# Altium integrated library Linear Technology PMIC-Switching Reg LT1074-LT8705.IntLib: 2252 symbols (part 6 of 124)
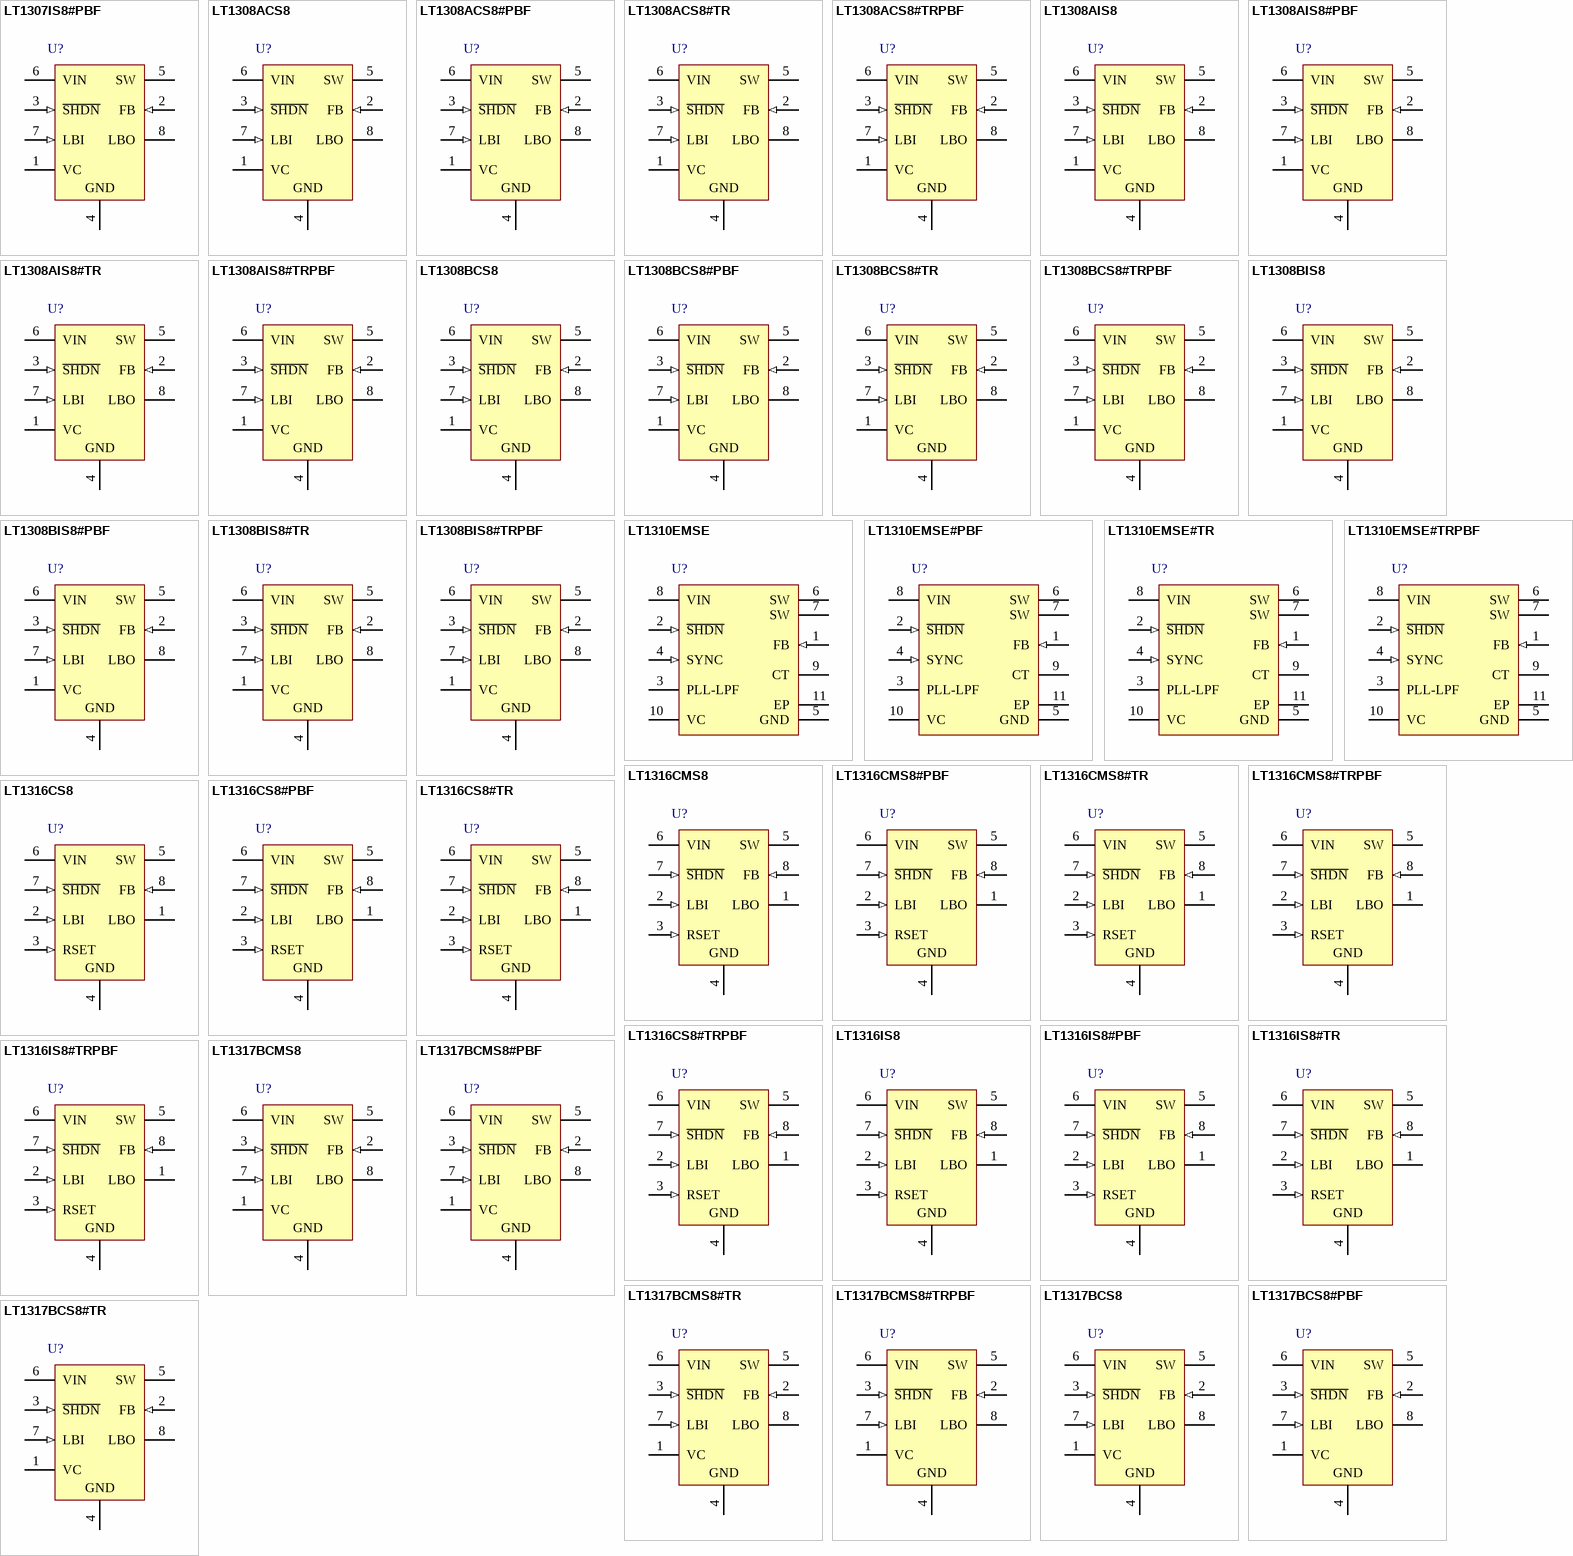
[diagram p76: symbols LT1307IS8#PBF to LT1317BCS8#TR]

## LT1316IS8#TRPBF
designator U?
Micropower DC/DC Converter with Programmable Peak Current Limit, 8-pin SOIC (S8-8), -40 to 85 degC, Pb-Free, Tape and Reel; Manufacturer: Linear Technology; PartNumber: LT1316IS8#TRPBF; Number of Outputs: 1; PackageReference: S8-8; PackageDescription: 8-Pin Plastic Small Outline (Narrow .150 Inch), Body 4.9 x 3.9 mm, Pitch 1.27 mm; Supplier 1: Digi-Key; Supplier Part Number 1: LT1316IS8#TRPBF-ND; RoHS: TRUE
footprint LT-S8-8_N (SOIC, 8-Leads, Body 5x4mm, Pitch 1.27mm, IPC Medium Density)
footprint LT-S8-8_L (SOIC, 8-Leads, Body 5x4mm, Pitch 1.27mm, IPC High Density)
footprint LT-S8-8_M (SOIC, 8-Leads, Body 5x4mm, Pitch 1.27mm, IPC Low Density)
pins: 1 LBO (oc) "Low-Battery Detector Output. Open collector can sink up to 500uA. Low-battery detector remains active in shutdown mode.", 2 LBI (in) "Low-Battery Detector Input. When voltage at this pin drops below 1.17V, LBO goes low.", 3 RSET (in) "A resistor between RSET and GND programs peak switch current. The resistor value should be between 3k and 150k. Do not float or short to ground. This is a high impedance node. Keep traces at this pin as short as possible. Do (See Datasheet)", 4 GND (power) "Ground. Connect directly to ground plane.", 5 SW (power) "Collector of NPN Power Transistor. Keep traces at this pin as short as possible.", 6 VIN (power) "Input Supply. Must be bypassed close to the pin.", 7 ~{SHDN} (in) "Shutdown. Ground this pin to place the part in shutdown mode (only the low-battery detector remains active). Tie to a voltage between 1.4V and 6V to enable the device. S\H\D\N\ pin is logic level and need only meet the logic (See Datasheet)", 8 FB (in) "Feedback Pin. Reference voltage is 1.23V. Connect resistive divider tap here. Minimize trace area at FB. Set VOUT according to: VOUT = 1.23V(1 + R1/R2)."

## LT1317BCMS8
designator U?
Micropower, 600 kHz PWM DC/DC Converter, 8-pin SOP (MS8-8), 0 to 70 degC; Manufacturer: Linear Technology; PartNumber: LT1317BCMS8; Number of Outputs: 1; PackageReference: MS8-8; PackageDescription: 8-Pin Plastic MSOP, Body 3 x 3 mm, Pitch 0.65 mm; Supplier 1: Digi-Key; Supplier Part Number 1: LT1317BCMS8-ND; RoHS: FALSE
footprint LT-MS8-8_N (SOP, 8-Leads, Body 3.1x3.1mm, Pitch 0.65mm, IPC Medium Density)
footprint LT-MS8-8_L (SOP, 8-Leads, Body 3.1x3.1mm, Pitch 0.65mm, IPC High Density)
footprint LT-MS8-8_M (SOP, 8-Leads, Body 3.1x3.1mm, Pitch 0.65mm, IPC Low Density)
pins: 1 VC "Compensation Pin for Error Amplifier.", 2 FB (in) "Feedback Pin.", 3 ~{SHDN} (in) "Shutdown.", 4 GND (power) "Ground. Connect directly to local ground plane.", 5 SW (power) "Switch Pin. Connect inductor/diode here. Minimize trace area at this pin to keep EMI down.", 6 VIN (power) "Supply Pin.", 7 LBI (in) "Low-Battery Detector Input. 200mV reference. Voltage on LBI must stay between ground and 700mV.", 8 LBO (oc) "Low-Battery Detector Output. Open collector, can sink 10uA. A 1Mohm pull-up is recommended."

## LT1317BCMS8#PBF
designator U?
Micropower, 600 kHz PWM DC/DC Converter, 8-pin SOP (MS8-8), 0 to 70 degC, Pb-Free; Manufacturer: Linear Technology; PartNumber: LT1317BCMS8#PBF; Number of Outputs: 1; PackageReference: MS8-8; PackageDescription: 8-Pin Plastic MSOP, Body 3 x 3 mm, Pitch 0.65 mm; Supplier 1: Digi-Key; Supplier Part Number 1: LT1317BCMS8#PBF-ND; RoHS: TRUE
footprint LT-MS8-8_N (SOP, 8-Leads, Body 3.1x3.1mm, Pitch 0.65mm, IPC Medium Density)
footprint LT-MS8-8_L (SOP, 8-Leads, Body 3.1x3.1mm, Pitch 0.65mm, IPC High Density)
footprint LT-MS8-8_M (SOP, 8-Leads, Body 3.1x3.1mm, Pitch 0.65mm, IPC Low Density)
pins: 1 VC "Compensation Pin for Error Amplifier.", 2 FB (in) "Feedback Pin.", 3 ~{SHDN} (in) "Shutdown.", 4 GND (power) "Ground. Connect directly to local ground plane.", 5 SW (power) "Switch Pin. Connect inductor/diode here. Minimize trace area at this pin to keep EMI down.", 6 VIN (power) "Supply Pin.", 7 LBI (in) "Low-Battery Detector Input. 200mV reference. Voltage on LBI must stay between ground and 700mV.", 8 LBO (oc) "Low-Battery Detector Output. Open collector, can sink 10uA. A 1Mohm pull-up is recommended."

## LT1317BCMS8#TR
designator U?
Micropower, 600 kHz PWM DC/DC Converter, 8-pin SOP (MS8-8), 0 to 70 degC, Tape and Reel; Manufacturer: Linear Technology; PartNumber: LT1317BCMS8#TR; Number of Outputs: 1; PackageReference: MS8-8; PackageDescription: 8-Pin Plastic MSOP, Body 3 x 3 mm, Pitch 0.65 mm; Supplier 1: Digi-Key; Supplier Part Number 1: LT1317BCMS8#TR-ND; RoHS: FALSE
footprint LT-MS8-8_N (SOP, 8-Leads, Body 3.1x3.1mm, Pitch 0.65mm, IPC Medium Density)
footprint LT-MS8-8_L (SOP, 8-Leads, Body 3.1x3.1mm, Pitch 0.65mm, IPC High Density)
footprint LT-MS8-8_M (SOP, 8-Leads, Body 3.1x3.1mm, Pitch 0.65mm, IPC Low Density)
pins: 1 VC "Compensation Pin for Error Amplifier.", 2 FB (in) "Feedback Pin.", 3 ~{SHDN} (in) "Shutdown.", 4 GND (power) "Ground. Connect directly to local ground plane.", 5 SW (power) "Switch Pin. Connect inductor/diode here. Minimize trace area at this pin to keep EMI down.", 6 VIN (power) "Supply Pin.", 7 LBI (in) "Low-Battery Detector Input. 200mV reference. Voltage on LBI must stay between ground and 700mV.", 8 LBO (oc) "Low-Battery Detector Output. Open collector, can sink 10uA. A 1Mohm pull-up is recommended."

## LT1317BCMS8#TRPBF
designator U?
Micropower, 600 kHz PWM DC/DC Converter, 8-pin SOP (MS8-8), 0 to 70 degC, Pb-Free, Tape and Reel; Manufacturer: Linear Technology; PartNumber: LT1317BCMS8#TRPBF; Number of Outputs: 1; PackageReference: MS8-8; PackageDescription: 8-Pin Plastic MSOP, Body 3 x 3 mm, Pitch 0.65 mm; Supplier 1: Digi-Key; Supplier Part Number 1: LT1317BCMS8#TRPBF-ND; RoHS: TRUE
footprint LT-MS8-8_N (SOP, 8-Leads, Body 3.1x3.1mm, Pitch 0.65mm, IPC Medium Density)
footprint LT-MS8-8_L (SOP, 8-Leads, Body 3.1x3.1mm, Pitch 0.65mm, IPC High Density)
footprint LT-MS8-8_M (SOP, 8-Leads, Body 3.1x3.1mm, Pitch 0.65mm, IPC Low Density)
pins: 1 VC "Compensation Pin for Error Amplifier.", 2 FB (in) "Feedback Pin.", 3 ~{SHDN} (in) "Shutdown.", 4 GND (power) "Ground. Connect directly to local ground plane.", 5 SW (power) "Switch Pin. Connect inductor/diode here. Minimize trace area at this pin to keep EMI down.", 6 VIN (power) "Supply Pin.", 7 LBI (in) "Low-Battery Detector Input. 200mV reference. Voltage on LBI must stay between ground and 700mV.", 8 LBO (oc) "Low-Battery Detector Output. Open collector, can sink 10uA. A 1Mohm pull-up is recommended."

## LT1317BCS8
designator U?
Micropower, 600 kHz PWM DC/DC Converter, 8-pin SOIC (S8-8), 0 to 70 degC; Manufacturer: Linear Technology; PartNumber: LT1317BCS8; Number of Outputs: 1; PackageReference: S8-8; PackageDescription: 8-Pin Plastic Small Outline (Narrow .150 Inch), Body 4.9 x 3.9 mm, Pitch 1.27 mm; Supplier 1: Digi-Key; Supplier Part Number 1: LT1317BCS8-ND; RoHS: FALSE
footprint LT-S8-8_N (SOIC, 8-Leads, Body 5x4mm, Pitch 1.27mm, IPC Medium Density)
footprint LT-S8-8_L (SOIC, 8-Leads, Body 5x4mm, Pitch 1.27mm, IPC High Density)
footprint LT-S8-8_M (SOIC, 8-Leads, Body 5x4mm, Pitch 1.27mm, IPC Low Density)
pins: 1 VC "Compensation Pin for Error Amplifier.", 2 FB (in) "Feedback Pin.", 3 ~{SHDN} (in) "Shutdown.", 4 GND (power) "Ground. Connect directly to local ground plane.", 5 SW (power) "Switch Pin. Connect inductor/diode here. Minimize trace area at this pin to keep EMI down.", 6 VIN (power) "Supply Pin.", 7 LBI (in) "Low-Battery Detector Input. 200mV reference. Voltage on LBI must stay between ground and 700mV.", 8 LBO (oc) "Low-Battery Detector Output. Open collector, can sink 10uA. A 1Mohm pull-up is recommended."

## LT1317BCS8#PBF
designator U?
Micropower, 600 kHz PWM DC/DC Converter, 8-pin SOIC (S8-8), 0 to 70 degC, Pb-Free; Manufacturer: Linear Technology; PartNumber: LT1317BCS8#PBF; Number of Outputs: 1; PackageReference: S8-8; PackageDescription: 8-Pin Plastic Small Outline (Narrow .150 Inch), Body 4.9 x 3.9 mm, Pitch 1.27 mm; Supplier 1: Digi-Key; Supplier Part Number 1: LT1317BCS8#PBF-ND; RoHS: TRUE
footprint LT-S8-8_N (SOIC, 8-Leads, Body 5x4mm, Pitch 1.27mm, IPC Medium Density)
footprint LT-S8-8_L (SOIC, 8-Leads, Body 5x4mm, Pitch 1.27mm, IPC High Density)
footprint LT-S8-8_M (SOIC, 8-Leads, Body 5x4mm, Pitch 1.27mm, IPC Low Density)
pins: 1 VC "Compensation Pin for Error Amplifier.", 2 FB (in) "Feedback Pin.", 3 ~{SHDN} (in) "Shutdown.", 4 GND (power) "Ground. Connect directly to local ground plane.", 5 SW (power) "Switch Pin. Connect inductor/diode here. Minimize trace area at this pin to keep EMI down.", 6 VIN (power) "Supply Pin.", 7 LBI (in) "Low-Battery Detector Input. 200mV reference. Voltage on LBI must stay between ground and 700mV.", 8 LBO (oc) "Low-Battery Detector Output. Open collector, can sink 10uA. A 1Mohm pull-up is recommended."

## LT1317BCS8#TR
designator U?
Micropower, 600 kHz PWM DC/DC Converter, 8-pin SOIC (S8-8), 0 to 70 degC, Tape and Reel; Manufacturer: Linear Technology; PartNumber: LT1317BCS8#TR; Number of Outputs: 1; PackageReference: S8-8; PackageDescription: 8-Pin Plastic Small Outline (Narrow .150 Inch), Body 4.9 x 3.9 mm, Pitch 1.27 mm; Supplier 1: Digi-Key; Supplier Part Number 1: LT1317BCS8#TR-ND; RoHS: FALSE
footprint LT-S8-8_N (SOIC, 8-Leads, Body 5x4mm, Pitch 1.27mm, IPC Medium Density)
footprint LT-S8-8_L (SOIC, 8-Leads, Body 5x4mm, Pitch 1.27mm, IPC High Density)
footprint LT-S8-8_M (SOIC, 8-Leads, Body 5x4mm, Pitch 1.27mm, IPC Low Density)
pins: 1 VC "Compensation Pin for Error Amplifier.", 2 FB (in) "Feedback Pin.", 3 ~{SHDN} (in) "Shutdown.", 4 GND (power) "Ground. Connect directly to local ground plane.", 5 SW (power) "Switch Pin. Connect inductor/diode here. Minimize trace area at this pin to keep EMI down.", 6 VIN (power) "Supply Pin.", 7 LBI (in) "Low-Battery Detector Input. 200mV reference. Voltage on LBI must stay between ground and 700mV.", 8 LBO (oc) "Low-Battery Detector Output. Open collector, can sink 10uA. A 1Mohm pull-up is recommended."

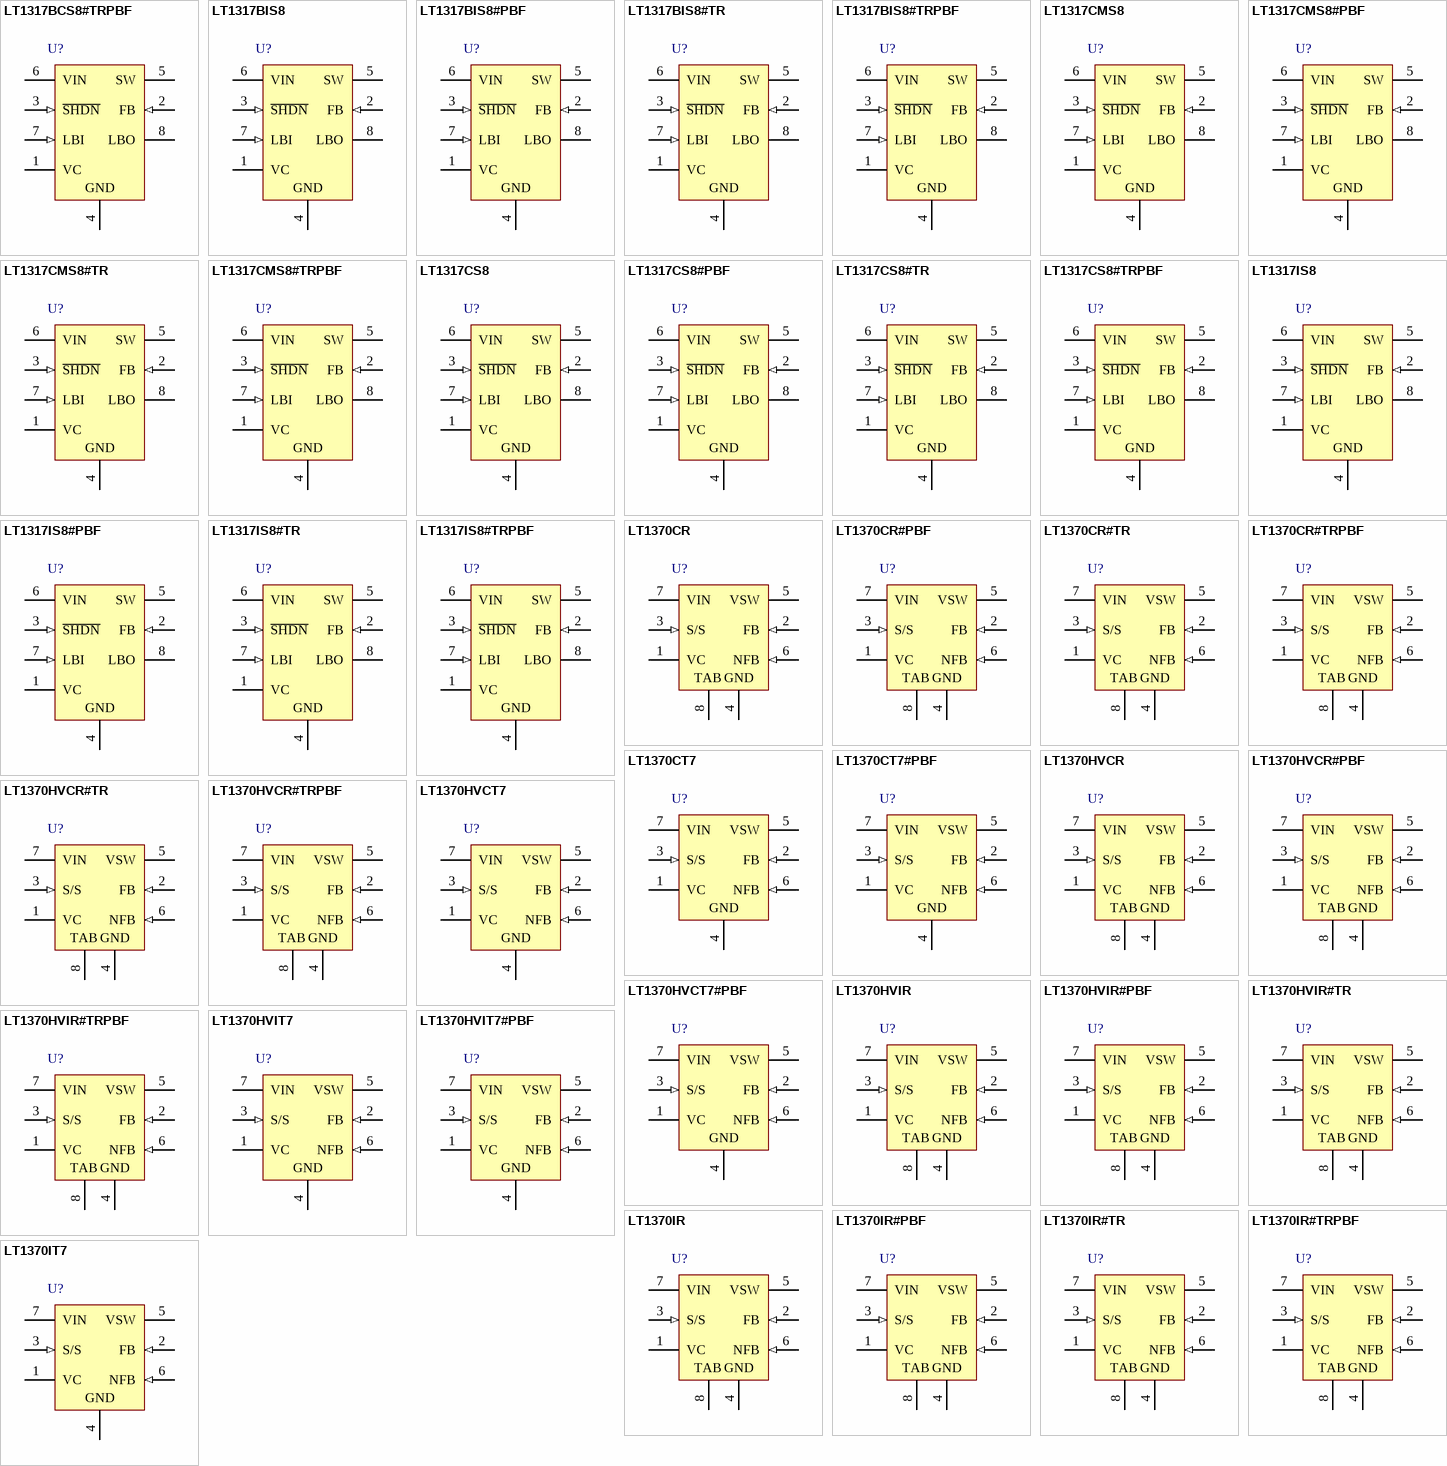
[diagram p6: symbols LT1317BCS8#TRPBF to LT1370IT7]

## LT1317BCS8#TRPBF
designator U?
Micropower, 600 kHz PWM DC/DC Converter, 8-pin SOIC (S8-8), 0 to 70 degC, Pb-Free, Tape and Reel; Manufacturer: Linear Technology; PartNumber: LT1317BCS8#TRPBF; Number of Outputs: 1; PackageReference: S8-8; PackageDescription: 8-Pin Plastic Small Outline (Narrow .150 Inch), Body 4.9 x 3.9 mm, Pitch 1.27 mm; Supplier 1: Digi-Key; Supplier Part Number 1: LT1317BCS8#TRPBF-ND; RoHS: TRUE
footprint LT-S8-8_N (SOIC, 8-Leads, Body 5x4mm, Pitch 1.27mm, IPC Medium Density)
footprint LT-S8-8_L (SOIC, 8-Leads, Body 5x4mm, Pitch 1.27mm, IPC High Density)
footprint LT-S8-8_M (SOIC, 8-Leads, Body 5x4mm, Pitch 1.27mm, IPC Low Density)
pins: 1 VC "Compensation Pin for Error Amplifier.", 2 FB (in) "Feedback Pin.", 3 ~{SHDN} (in) "Shutdown.", 4 GND (power) "Ground. Connect directly to local ground plane.", 5 SW (power) "Switch Pin. Connect inductor/diode here. Minimize trace area at this pin to keep EMI down.", 6 VIN (power) "Supply Pin.", 7 LBI (in) "Low-Battery Detector Input. 200mV reference. Voltage on LBI must stay between ground and 700mV.", 8 LBO (oc) "Low-Battery Detector Output. Open collector, can sink 10uA. A 1Mohm pull-up is recommended."

## LT1317BIS8
designator U?
Micropower, 600 kHz PWM DC/DC Converter, 8-pin SOIC (S8-8), -40 to 85 degC; Manufacturer: Linear Technology; PartNumber: LT1317BIS8; Number of Outputs: 1; PackageReference: S8-8; PackageDescription: 8-Pin Plastic Small Outline (Narrow .150 Inch), Body 4.9 x 3.9 mm, Pitch 1.27 mm; Supplier 1: Digi-Key; Supplier Part Number 1: LT1317BIS8-ND; RoHS: FALSE
footprint LT-S8-8_N (SOIC, 8-Leads, Body 5x4mm, Pitch 1.27mm, IPC Medium Density)
footprint LT-S8-8_L (SOIC, 8-Leads, Body 5x4mm, Pitch 1.27mm, IPC High Density)
footprint LT-S8-8_M (SOIC, 8-Leads, Body 5x4mm, Pitch 1.27mm, IPC Low Density)
pins: 1 VC "Compensation Pin for Error Amplifier.", 2 FB (in) "Feedback Pin.", 3 ~{SHDN} (in) "Shutdown.", 4 GND (power) "Ground. Connect directly to local ground plane.", 5 SW (power) "Switch Pin. Connect inductor/diode here. Minimize trace area at this pin to keep EMI down.", 6 VIN (power) "Supply Pin.", 7 LBI (in) "Low-Battery Detector Input. 200mV reference. Voltage on LBI must stay between ground and 700mV.", 8 LBO (oc) "Low-Battery Detector Output. Open collector, can sink 10uA. A 1Mohm pull-up is recommended."

## LT1317BIS8#PBF
designator U?
Micropower, 600 kHz PWM DC/DC Converter, 8-pin SOIC (S8-8), -40 to 85 degC, Pb-Free; Manufacturer: Linear Technology; PartNumber: LT1317BIS8#PBF; Number of Outputs: 1; PackageReference: S8-8; PackageDescription: 8-Pin Plastic Small Outline (Narrow .150 Inch), Body 4.9 x 3.9 mm, Pitch 1.27 mm; Supplier 1: Digi-Key; Supplier Part Number 1: LT1317BIS8#PBF-ND; RoHS: TRUE
footprint LT-S8-8_N (SOIC, 8-Leads, Body 5x4mm, Pitch 1.27mm, IPC Medium Density)
footprint LT-S8-8_L (SOIC, 8-Leads, Body 5x4mm, Pitch 1.27mm, IPC High Density)
footprint LT-S8-8_M (SOIC, 8-Leads, Body 5x4mm, Pitch 1.27mm, IPC Low Density)
pins: 1 VC "Compensation Pin for Error Amplifier.", 2 FB (in) "Feedback Pin.", 3 ~{SHDN} (in) "Shutdown.", 4 GND (power) "Ground. Connect directly to local ground plane.", 5 SW (power) "Switch Pin. Connect inductor/diode here. Minimize trace area at this pin to keep EMI down.", 6 VIN (power) "Supply Pin.", 7 LBI (in) "Low-Battery Detector Input. 200mV reference. Voltage on LBI must stay between ground and 700mV.", 8 LBO (oc) "Low-Battery Detector Output. Open collector, can sink 10uA. A 1Mohm pull-up is recommended."

## LT1317BIS8#TR
designator U?
Micropower, 600 kHz PWM DC/DC Converter, 8-pin SOIC (S8-8), -40 to 85 degC, Tape and Reel; Manufacturer: Linear Technology; PartNumber: LT1317BIS8#TR; Number of Outputs: 1; PackageReference: S8-8; PackageDescription: 8-Pin Plastic Small Outline (Narrow .150 Inch), Body 4.9 x 3.9 mm, Pitch 1.27 mm; Supplier 1: Digi-Key; Supplier Part Number 1: LT1317BIS8#TR-ND; RoHS: FALSE
footprint LT-S8-8_N (SOIC, 8-Leads, Body 5x4mm, Pitch 1.27mm, IPC Medium Density)
footprint LT-S8-8_L (SOIC, 8-Leads, Body 5x4mm, Pitch 1.27mm, IPC High Density)
footprint LT-S8-8_M (SOIC, 8-Leads, Body 5x4mm, Pitch 1.27mm, IPC Low Density)
pins: 1 VC "Compensation Pin for Error Amplifier.", 2 FB (in) "Feedback Pin.", 3 ~{SHDN} (in) "Shutdown.", 4 GND (power) "Ground. Connect directly to local ground plane.", 5 SW (power) "Switch Pin. Connect inductor/diode here. Minimize trace area at this pin to keep EMI down.", 6 VIN (power) "Supply Pin.", 7 LBI (in) "Low-Battery Detector Input. 200mV reference. Voltage on LBI must stay between ground and 700mV.", 8 LBO (oc) "Low-Battery Detector Output. Open collector, can sink 10uA. A 1Mohm pull-up is recommended."

## LT1317BIS8#TRPBF
designator U?
Micropower, 600 kHz PWM DC/DC Converter, 8-pin SOIC (S8-8), -40 to 85 degC, Pb-Free, Tape and Reel; Manufacturer: Linear Technology; PartNumber: LT1317BIS8#TRPBF; Number of Outputs: 1; PackageReference: S8-8; PackageDescription: 8-Pin Plastic Small Outline (Narrow .150 Inch), Body 4.9 x 3.9 mm, Pitch 1.27 mm; Supplier 1: Digi-Key; Supplier Part Number 1: LT1317BIS8#TRPBF-ND; RoHS: TRUE
footprint LT-S8-8_N (SOIC, 8-Leads, Body 5x4mm, Pitch 1.27mm, IPC Medium Density)
footprint LT-S8-8_L (SOIC, 8-Leads, Body 5x4mm, Pitch 1.27mm, IPC High Density)
footprint LT-S8-8_M (SOIC, 8-Leads, Body 5x4mm, Pitch 1.27mm, IPC Low Density)
pins: 1 VC "Compensation Pin for Error Amplifier.", 2 FB (in) "Feedback Pin.", 3 ~{SHDN} (in) "Shutdown.", 4 GND (power) "Ground. Connect directly to local ground plane.", 5 SW (power) "Switch Pin. Connect inductor/diode here. Minimize trace area at this pin to keep EMI down.", 6 VIN (power) "Supply Pin.", 7 LBI (in) "Low-Battery Detector Input. 200mV reference. Voltage on LBI must stay between ground and 700mV.", 8 LBO (oc) "Low-Battery Detector Output. Open collector, can sink 10uA. A 1Mohm pull-up is recommended."

## LT1317CMS8
designator U?
Micropower, 600 kHz PWM DC/DC Converter, 8-pin SOP (MS8-8), 0 to 70 degC; Manufacturer: Linear Technology; PartNumber: LT1317CMS8; Number of Outputs: 1; PackageReference: MS8-8; PackageDescription: 8-Pin Plastic MSOP, Body 3 x 3 mm, Pitch 0.65 mm; Supplier 1: Digi-Key; Supplier Part Number 1: LT1317CMS8-ND; RoHS: FALSE
footprint LT-MS8-8_N (SOP, 8-Leads, Body 3.1x3.1mm, Pitch 0.65mm, IPC Medium Density)
footprint LT-MS8-8_L (SOP, 8-Leads, Body 3.1x3.1mm, Pitch 0.65mm, IPC High Density)
footprint LT-MS8-8_M (SOP, 8-Leads, Body 3.1x3.1mm, Pitch 0.65mm, IPC Low Density)
pins: 1 VC "Compensation Pin for Error Amplifier. Connect a series RC network from this pin to ground. Typical values for compensation are a 33k/3.3nF combination. A 100pF capacitor from the VC pin to ground is optional and improves (See Datasheet)", 2 FB (in) "Feedback Pin. Reference voltage is 1.24V. Connect resistor divider tap here. Minimize trace area at FB. Set VOUT according to: VOUT = 1.24V(1 + R1/R2).", 3 ~{SHDN} (in) "Shutdown. Pull this pin low for shutdown mode (only the low-battery detector remains active). Leave this pin floating or tie to a voltage between 1.4V and 6V to enable the device. S\H\D\N\ pin is logic level and need only (See Datasheet)", 4 GND (power) "Ground. Connect directly to local ground plane.", 5 SW (power) "Switch Pin. Connect inductor/diode here. Minimize trace area at this pin to keep EMI down.", 6 VIN (power) "Supply Pin. Must be bypassed close to the pin.", 7 LBI (in) "Low-Battery Detector Input. 200mV reference. Voltage on LBI must stay between ground and 700mV. Low-battery detector remains active in shutdown mode.", 8 LBO (oc) "Low-Battery Detector Output. Open collector, can sink 10uA. A 1Mohm pull-up is recommended."

## LT1317CMS8#PBF
designator U?
Micropower, 600 kHz PWM DC/DC Converter, 8-pin SOP (MS8-8), 0 to 70 degC, Pb-Free; Manufacturer: Linear Technology; PartNumber: LT1317CMS8#PBF; Number of Outputs: 1; PackageReference: MS8-8; PackageDescription: 8-Pin Plastic MSOP, Body 3 x 3 mm, Pitch 0.65 mm; Supplier 1: Digi-Key; Supplier Part Number 1: LT1317CMS8#PBF-ND; RoHS: TRUE
footprint LT-MS8-8_N (SOP, 8-Leads, Body 3.1x3.1mm, Pitch 0.65mm, IPC Medium Density)
footprint LT-MS8-8_L (SOP, 8-Leads, Body 3.1x3.1mm, Pitch 0.65mm, IPC High Density)
footprint LT-MS8-8_M (SOP, 8-Leads, Body 3.1x3.1mm, Pitch 0.65mm, IPC Low Density)
pins: 1 VC "Compensation Pin for Error Amplifier. Connect a series RC network from this pin to ground. Typical values for compensation are a 33k/3.3nF combination. A 100pF capacitor from the VC pin to ground is optional and improves (See Datasheet)", 2 FB (in) "Feedback Pin. Reference voltage is 1.24V. Connect resistor divider tap here. Minimize trace area at FB. Set VOUT according to: VOUT = 1.24V(1 + R1/R2).", 3 ~{SHDN} (in) "Shutdown. Pull this pin low for shutdown mode (only the low-battery detector remains active). Leave this pin floating or tie to a voltage between 1.4V and 6V to enable the device. S\H\D\N\ pin is logic level and need only (See Datasheet)", 4 GND (power) "Ground. Connect directly to local ground plane.", 5 SW (power) "Switch Pin. Connect inductor/diode here. Minimize trace area at this pin to keep EMI down.", 6 VIN (power) "Supply Pin. Must be bypassed close to the pin.", 7 LBI (in) "Low-Battery Detector Input. 200mV reference. Voltage on LBI must stay between ground and 700mV. Low-battery detector remains active in shutdown mode.", 8 LBO (oc) "Low-Battery Detector Output. Open collector, can sink 10uA. A 1Mohm pull-up is recommended."

## LT1317CMS8#TR
designator U?
Micropower, 600 kHz PWM DC/DC Converter, 8-pin SOP (MS8-8), 0 to 70 degC, Tape and Reel; Manufacturer: Linear Technology; PartNumber: LT1317CMS8#TR; Number of Outputs: 1; PackageReference: MS8-8; PackageDescription: 8-Pin Plastic MSOP, Body 3 x 3 mm, Pitch 0.65 mm; Supplier 1: Digi-Key; Supplier Part Number 1: LT1317CMS8#TR-ND; RoHS: FALSE
footprint LT-MS8-8_N (SOP, 8-Leads, Body 3.1x3.1mm, Pitch 0.65mm, IPC Medium Density)
footprint LT-MS8-8_L (SOP, 8-Leads, Body 3.1x3.1mm, Pitch 0.65mm, IPC High Density)
footprint LT-MS8-8_M (SOP, 8-Leads, Body 3.1x3.1mm, Pitch 0.65mm, IPC Low Density)
pins: 1 VC "Compensation Pin for Error Amplifier. Connect a series RC network from this pin to ground. Typical values for compensation are a 33k/3.3nF combination. A 100pF capacitor from the VC pin to ground is optional and improves (See Datasheet)", 2 FB (in) "Feedback Pin. Reference voltage is 1.24V. Connect resistor divider tap here. Minimize trace area at FB. Set VOUT according to: VOUT = 1.24V(1 + R1/R2).", 3 ~{SHDN} (in) "Shutdown. Pull this pin low for shutdown mode (only the low-battery detector remains active). Leave this pin floating or tie to a voltage between 1.4V and 6V to enable the device. S\H\D\N\ pin is logic level and need only (See Datasheet)", 4 GND (power) "Ground. Connect directly to local ground plane.", 5 SW (power) "Switch Pin. Connect inductor/diode here. Minimize trace area at this pin to keep EMI down.", 6 VIN (power) "Supply Pin. Must be bypassed close to the pin.", 7 LBI (in) "Low-Battery Detector Input. 200mV reference. Voltage on LBI must stay between ground and 700mV. Low-battery detector remains active in shutdown mode.", 8 LBO (oc) "Low-Battery Detector Output. Open collector, can sink 10uA. A 1Mohm pull-up is recommended."

## LT1317CMS8#TRPBF
designator U?
Micropower, 600 kHz PWM DC/DC Converter, 8-pin SOP (MS8-8), 0 to 70 degC, Pb-Free, Tape and Reel; Manufacturer: Linear Technology; PartNumber: LT1317CMS8#TRPBF; Number of Outputs: 1; PackageReference: MS8-8; PackageDescription: 8-Pin Plastic MSOP, Body 3 x 3 mm, Pitch 0.65 mm; Supplier 1: Digi-Key; Supplier Part Number 1: LT1317CMS8#TRPBF-ND; RoHS: TRUE
footprint LT-MS8-8_N (SOP, 8-Leads, Body 3.1x3.1mm, Pitch 0.65mm, IPC Medium Density)
footprint LT-MS8-8_L (SOP, 8-Leads, Body 3.1x3.1mm, Pitch 0.65mm, IPC High Density)
footprint LT-MS8-8_M (SOP, 8-Leads, Body 3.1x3.1mm, Pitch 0.65mm, IPC Low Density)
pins: 1 VC "Compensation Pin for Error Amplifier. Connect a series RC network from this pin to ground. Typical values for compensation are a 33k/3.3nF combination. A 100pF capacitor from the VC pin to ground is optional and improves (See Datasheet)", 2 FB (in) "Feedback Pin. Reference voltage is 1.24V. Connect resistor divider tap here. Minimize trace area at FB. Set VOUT according to: VOUT = 1.24V(1 + R1/R2).", 3 ~{SHDN} (in) "Shutdown. Pull this pin low for shutdown mode (only the low-battery detector remains active). Leave this pin floating or tie to a voltage between 1.4V and 6V to enable the device. S\H\D\N\ pin is logic level and need only (See Datasheet)", 4 GND (power) "Ground. Connect directly to local ground plane.", 5 SW (power) "Switch Pin. Connect inductor/diode here. Minimize trace area at this pin to keep EMI down.", 6 VIN (power) "Supply Pin. Must be bypassed close to the pin.", 7 LBI (in) "Low-Battery Detector Input. 200mV reference. Voltage on LBI must stay between ground and 700mV. Low-battery detector remains active in shutdown mode.", 8 LBO (oc) "Low-Battery Detector Output. Open collector, can sink 10uA. A 1Mohm pull-up is recommended."

## LT1317CS8
designator U?
Micropower, 600 kHz PWM DC/DC Converter, 8-pin SOIC (S8-8), 0 to 70 degC; Manufacturer: Linear Technology; PartNumber: LT1317CS8; Number of Outputs: 1; PackageReference: S8-8; PackageDescription: 8-Pin Plastic Small Outline (Narrow .150 Inch), Body 4.9 x 3.9 mm, Pitch 1.27 mm; Supplier 1: Digi-Key; Supplier Part Number 1: LT1317CS8-ND; RoHS: FALSE
footprint LT-S8-8_N (SOIC, 8-Leads, Body 5x4mm, Pitch 1.27mm, IPC Medium Density)
footprint LT-S8-8_L (SOIC, 8-Leads, Body 5x4mm, Pitch 1.27mm, IPC High Density)
footprint LT-S8-8_M (SOIC, 8-Leads, Body 5x4mm, Pitch 1.27mm, IPC Low Density)
pins: 1 VC "Compensation Pin for Error Amplifier. Connect a series RC network from this pin to ground. Typical values for compensation are a 33k/3.3nF combination. A 100pF capacitor from the VC pin to ground is optional and improves (See Datasheet)", 2 FB (in) "Feedback Pin. Reference voltage is 1.24V. Connect resistor divider tap here. Minimize trace area at FB. Set VOUT according to: VOUT = 1.24V(1 + R1/R2).", 3 ~{SHDN} (in) "Shutdown. Pull this pin low for shutdown mode (only the low-battery detector remains active). Leave this pin floating or tie to a voltage between 1.4V and 6V to enable the device. S\H\D\N\ pin is logic level and need only (See Datasheet)", 4 GND (power) "Ground. Connect directly to local ground plane.", 5 SW (power) "Switch Pin. Connect inductor/diode here. Minimize trace area at this pin to keep EMI down.", 6 VIN (power) "Supply Pin. Must be bypassed close to the pin.", 7 LBI (in) "Low-Battery Detector Input. 200mV reference. Voltage on LBI must stay between ground and 700mV. Low-battery detector remains active in shutdown mode.", 8 LBO (oc) "Low-Battery Detector Output. Open collector, can sink 10uA. A 1Mohm pull-up is recommended."

## LT1317CS8#PBF
designator U?
Micropower, 600 kHz PWM DC/DC Converter, 8-pin SOIC (S8-8), 0 to 70 degC, Pb-Free; Manufacturer: Linear Technology; PartNumber: LT1317CS8#PBF; Number of Outputs: 1; PackageReference: S8-8; PackageDescription: 8-Pin Plastic Small Outline (Narrow .150 Inch), Body 4.9 x 3.9 mm, Pitch 1.27 mm; Supplier 1: Digi-Key; Supplier Part Number 1: LT1317CS8#PBF-ND; RoHS: TRUE
footprint LT-S8-8_N (SOIC, 8-Leads, Body 5x4mm, Pitch 1.27mm, IPC Medium Density)
footprint LT-S8-8_L (SOIC, 8-Leads, Body 5x4mm, Pitch 1.27mm, IPC High Density)
footprint LT-S8-8_M (SOIC, 8-Leads, Body 5x4mm, Pitch 1.27mm, IPC Low Density)
pins: 1 VC "Compensation Pin for Error Amplifier. Connect a series RC network from this pin to ground. Typical values for compensation are a 33k/3.3nF combination. A 100pF capacitor from the VC pin to ground is optional and improves (See Datasheet)", 2 FB (in) "Feedback Pin. Reference voltage is 1.24V. Connect resistor divider tap here. Minimize trace area at FB. Set VOUT according to: VOUT = 1.24V(1 + R1/R2).", 3 ~{SHDN} (in) "Shutdown. Pull this pin low for shutdown mode (only the low-battery detector remains active). Leave this pin floating or tie to a voltage between 1.4V and 6V to enable the device. S\H\D\N\ pin is logic level and need only (See Datasheet)", 4 GND (power) "Ground. Connect directly to local ground plane.", 5 SW (power) "Switch Pin. Connect inductor/diode here. Minimize trace area at this pin to keep EMI down.", 6 VIN (power) "Supply Pin. Must be bypassed close to the pin.", 7 LBI (in) "Low-Battery Detector Input. 200mV reference. Voltage on LBI must stay between ground and 700mV. Low-battery detector remains active in shutdown mode.", 8 LBO (oc) "Low-Battery Detector Output. Open collector, can sink 10uA. A 1Mohm pull-up is recommended."

## LT1317CS8#TR
designator U?
Micropower, 600 kHz PWM DC/DC Converter, 8-pin SOIC (S8-8), 0 to 70 degC, Tape and Reel; Manufacturer: Linear Technology; PartNumber: LT1317CS8#TR; Number of Outputs: 1; PackageReference: S8-8; PackageDescription: 8-Pin Plastic Small Outline (Narrow .150 Inch), Body 4.9 x 3.9 mm, Pitch 1.27 mm; Supplier 1: Digi-Key; Supplier Part Number 1: LT1317CS8#TR-ND; RoHS: FALSE
footprint LT-S8-8_N (SOIC, 8-Leads, Body 5x4mm, Pitch 1.27mm, IPC Medium Density)
footprint LT-S8-8_L (SOIC, 8-Leads, Body 5x4mm, Pitch 1.27mm, IPC High Density)
footprint LT-S8-8_M (SOIC, 8-Leads, Body 5x4mm, Pitch 1.27mm, IPC Low Density)
pins: 1 VC "Compensation Pin for Error Amplifier. Connect a series RC network from this pin to ground. Typical values for compensation are a 33k/3.3nF combination. A 100pF capacitor from the VC pin to ground is optional and improves (See Datasheet)", 2 FB (in) "Feedback Pin. Reference voltage is 1.24V. Connect resistor divider tap here. Minimize trace area at FB. Set VOUT according to: VOUT = 1.24V(1 + R1/R2).", 3 ~{SHDN} (in) "Shutdown. Pull this pin low for shutdown mode (only the low-battery detector remains active). Leave this pin floating or tie to a voltage between 1.4V and 6V to enable the device. S\H\D\N\ pin is logic level and need only (See Datasheet)", 4 GND (power) "Ground. Connect directly to local ground plane.", 5 SW (power) "Switch Pin. Connect inductor/diode here. Minimize trace area at this pin to keep EMI down.", 6 VIN (power) "Supply Pin. Must be bypassed close to the pin.", 7 LBI (in) "Low-Battery Detector Input. 200mV reference. Voltage on LBI must stay between ground and 700mV. Low-battery detector remains active in shutdown mode.", 8 LBO (oc) "Low-Battery Detector Output. Open collector, can sink 10uA. A 1Mohm pull-up is recommended."

## LT1317CS8#TRPBF
designator U?
Micropower, 600 kHz PWM DC/DC Converter, 8-pin SOIC (S8-8), 0 to 70 degC, Pb-Free, Tape and Reel; Manufacturer: Linear Technology; PartNumber: LT1317CS8#TRPBF; Number of Outputs: 1; PackageReference: S8-8; PackageDescription: 8-Pin Plastic Small Outline (Narrow .150 Inch), Body 4.9 x 3.9 mm, Pitch 1.27 mm; Supplier 1: Digi-Key; Supplier Part Number 1: LT1317CS8#TRPBF-ND; RoHS: TRUE
footprint LT-S8-8_N (SOIC, 8-Leads, Body 5x4mm, Pitch 1.27mm, IPC Medium Density)
footprint LT-S8-8_L (SOIC, 8-Leads, Body 5x4mm, Pitch 1.27mm, IPC High Density)
footprint LT-S8-8_M (SOIC, 8-Leads, Body 5x4mm, Pitch 1.27mm, IPC Low Density)
pins: 1 VC "Compensation Pin for Error Amplifier. Connect a series RC network from this pin to ground. Typical values for compensation are a 33k/3.3nF combination. A 100pF capacitor from the VC pin to ground is optional and improves (See Datasheet)", 2 FB (in) "Feedback Pin. Reference voltage is 1.24V. Connect resistor divider tap here. Minimize trace area at FB. Set VOUT according to: VOUT = 1.24V(1 + R1/R2).", 3 ~{SHDN} (in) "Shutdown. Pull this pin low for shutdown mode (only the low-battery detector remains active). Leave this pin floating or tie to a voltage between 1.4V and 6V to enable the device. S\H\D\N\ pin is logic level and need only (See Datasheet)", 4 GND (power) "Ground. Connect directly to local ground plane.", 5 SW (power) "Switch Pin. Connect inductor/diode here. Minimize trace area at this pin to keep EMI down.", 6 VIN (power) "Supply Pin. Must be bypassed close to the pin.", 7 LBI (in) "Low-Battery Detector Input. 200mV reference. Voltage on LBI must stay between ground and 700mV. Low-battery detector remains active in shutdown mode.", 8 LBO (oc) "Low-Battery Detector Output. Open collector, can sink 10uA. A 1Mohm pull-up is recommended."

## LT1317IS8
designator U?
Micropower, 600 kHz PWM DC/DC Converter, 8-pin SOIC (S8-8), -40 to 85 degC; Manufacturer: Linear Technology; PartNumber: LT1317IS8; Number of Outputs: 1; PackageReference: S8-8; PackageDescription: 8-Pin Plastic Small Outline (Narrow .150 Inch), Body 4.9 x 3.9 mm, Pitch 1.27 mm; Supplier 1: Digi-Key; Supplier Part Number 1: LT1317IS8-ND; RoHS: FALSE
footprint LT-S8-8_N (SOIC, 8-Leads, Body 5x4mm, Pitch 1.27mm, IPC Medium Density)
footprint LT-S8-8_L (SOIC, 8-Leads, Body 5x4mm, Pitch 1.27mm, IPC High Density)
footprint LT-S8-8_M (SOIC, 8-Leads, Body 5x4mm, Pitch 1.27mm, IPC Low Density)
pins: 1 VC "Compensation Pin for Error Amplifier. Connect a series RC network from this pin to ground. Typical values for compensation are a 33k/3.3nF combination. A 100pF capacitor from the VC pin to ground is optional and improves (See Datasheet)", 2 FB (in) "Feedback Pin. Reference voltage is 1.24V. Connect resistor divider tap here. Minimize trace area at FB. Set VOUT according to: VOUT = 1.24V(1 + R1/R2).", 3 ~{SHDN} (in) "Shutdown. Pull this pin low for shutdown mode (only the low-battery detector remains active). Leave this pin floating or tie to a voltage between 1.4V and 6V to enable the device. S\H\D\N\ pin is logic level and need only (See Datasheet)", 4 GND (power) "Ground. Connect directly to local ground plane.", 5 SW (power) "Switch Pin. Connect inductor/diode here. Minimize trace area at this pin to keep EMI down.", 6 VIN (power) "Supply Pin. Must be bypassed close to the pin.", 7 LBI (in) "Low-Battery Detector Input. 200mV reference. Voltage on LBI must stay between ground and 700mV. Low-battery detector remains active in shutdown mode.", 8 LBO (oc) "Low-Battery Detector Output. Open collector, can sink 10uA. A 1Mohm pull-up is recommended."

## LT1317IS8#PBF
designator U?
Micropower, 600 kHz PWM DC/DC Converter, 8-pin SOIC (S8-8), -40 to 85 degC, Pb-Free; Manufacturer: Linear Technology; PartNumber: LT1317IS8#PBF; Number of Outputs: 1; PackageReference: S8-8; PackageDescription: 8-Pin Plastic Small Outline (Narrow .150 Inch), Body 4.9 x 3.9 mm, Pitch 1.27 mm; Supplier 1: Digi-Key; Supplier Part Number 1: LT1317IS8#PBF-ND; RoHS: TRUE
footprint LT-S8-8_N (SOIC, 8-Leads, Body 5x4mm, Pitch 1.27mm, IPC Medium Density)
footprint LT-S8-8_L (SOIC, 8-Leads, Body 5x4mm, Pitch 1.27mm, IPC High Density)
footprint LT-S8-8_M (SOIC, 8-Leads, Body 5x4mm, Pitch 1.27mm, IPC Low Density)
pins: 1 VC "Compensation Pin for Error Amplifier. Connect a series RC network from this pin to ground. Typical values for compensation are a 33k/3.3nF combination. A 100pF capacitor from the VC pin to ground is optional and improves (See Datasheet)", 2 FB (in) "Feedback Pin. Reference voltage is 1.24V. Connect resistor divider tap here. Minimize trace area at FB. Set VOUT according to: VOUT = 1.24V(1 + R1/R2).", 3 ~{SHDN} (in) "Shutdown. Pull this pin low for shutdown mode (only the low-battery detector remains active). Leave this pin floating or tie to a voltage between 1.4V and 6V to enable the device. S\H\D\N\ pin is logic level and need only (See Datasheet)", 4 GND (power) "Ground. Connect directly to local ground plane.", 5 SW (power) "Switch Pin. Connect inductor/diode here. Minimize trace area at this pin to keep EMI down.", 6 VIN (power) "Supply Pin. Must be bypassed close to the pin.", 7 LBI (in) "Low-Battery Detector Input. 200mV reference. Voltage on LBI must stay between ground and 700mV. Low-battery detector remains active in shutdown mode.", 8 LBO (oc) "Low-Battery Detector Output. Open collector, can sink 10uA. A 1Mohm pull-up is recommended."

## LT1317IS8#TR
designator U?
Micropower, 600 kHz PWM DC/DC Converter, 8-pin SOIC (S8-8), -40 to 85 degC, Tape and Reel; Manufacturer: Linear Technology; PartNumber: LT1317IS8#TR; Number of Outputs: 1; PackageReference: S8-8; PackageDescription: 8-Pin Plastic Small Outline (Narrow .150 Inch), Body 4.9 x 3.9 mm, Pitch 1.27 mm; Supplier 1: Digi-Key; Supplier Part Number 1: LT1317IS8#TR-ND; RoHS: FALSE
footprint LT-S8-8_N (SOIC, 8-Leads, Body 5x4mm, Pitch 1.27mm, IPC Medium Density)
footprint LT-S8-8_L (SOIC, 8-Leads, Body 5x4mm, Pitch 1.27mm, IPC High Density)
footprint LT-S8-8_M (SOIC, 8-Leads, Body 5x4mm, Pitch 1.27mm, IPC Low Density)
pins: 1 VC "Compensation Pin for Error Amplifier. Connect a series RC network from this pin to ground. Typical values for compensation are a 33k/3.3nF combination. A 100pF capacitor from the VC pin to ground is optional and improves (See Datasheet)", 2 FB (in) "Feedback Pin. Reference voltage is 1.24V. Connect resistor divider tap here. Minimize trace area at FB. Set VOUT according to: VOUT = 1.24V(1 + R1/R2).", 3 ~{SHDN} (in) "Shutdown. Pull this pin low for shutdown mode (only the low-battery detector remains active). Leave this pin floating or tie to a voltage between 1.4V and 6V to enable the device. S\H\D\N\ pin is logic level and need only (See Datasheet)", 4 GND (power) "Ground. Connect directly to local ground plane.", 5 SW (power) "Switch Pin. Connect inductor/diode here. Minimize trace area at this pin to keep EMI down.", 6 VIN (power) "Supply Pin. Must be bypassed close to the pin.", 7 LBI (in) "Low-Battery Detector Input. 200mV reference. Voltage on LBI must stay between ground and 700mV. Low-battery detector remains active in shutdown mode.", 8 LBO (oc) "Low-Battery Detector Output. Open collector, can sink 10uA. A 1Mohm pull-up is recommended."

## LT1317IS8#TRPBF
designator U?
Micropower, 600 kHz PWM DC/DC Converter, 8-pin SOIC (S8-8), -40 to 85 degC, Pb-Free, Tape and Reel; Manufacturer: Linear Technology; PartNumber: LT1317IS8#TRPBF; Number of Outputs: 1; PackageReference: S8-8; PackageDescription: 8-Pin Plastic Small Outline (Narrow .150 Inch), Body 4.9 x 3.9 mm, Pitch 1.27 mm; Supplier 1: Digi-Key; Supplier Part Number 1: LT1317IS8#TRPBF-ND; RoHS: TRUE
footprint LT-S8-8_N (SOIC, 8-Leads, Body 5x4mm, Pitch 1.27mm, IPC Medium Density)
footprint LT-S8-8_L (SOIC, 8-Leads, Body 5x4mm, Pitch 1.27mm, IPC High Density)
footprint LT-S8-8_M (SOIC, 8-Leads, Body 5x4mm, Pitch 1.27mm, IPC Low Density)
pins: 1 VC "Compensation Pin for Error Amplifier. Connect a series RC network from this pin to ground. Typical values for compensation are a 33k/3.3nF combination. A 100pF capacitor from the VC pin to ground is optional and improves (See Datasheet)", 2 FB (in) "Feedback Pin. Reference voltage is 1.24V. Connect resistor divider tap here. Minimize trace area at FB. Set VOUT according to: VOUT = 1.24V(1 + R1/R2).", 3 ~{SHDN} (in) "Shutdown. Pull this pin low for shutdown mode (only the low-battery detector remains active). Leave this pin floating or tie to a voltage between 1.4V and 6V to enable the device. S\H\D\N\ pin is logic level and need only (See Datasheet)", 4 GND (power) "Ground. Connect directly to local ground plane.", 5 SW (power) "Switch Pin. Connect inductor/diode here. Minimize trace area at this pin to keep EMI down.", 6 VIN (power) "Supply Pin. Must be bypassed close to the pin.", 7 LBI (in) "Low-Battery Detector Input. 200mV reference. Voltage on LBI must stay between ground and 700mV. Low-battery detector remains active in shutdown mode.", 8 LBO (oc) "Low-Battery Detector Output. Open collector, can sink 10uA. A 1Mohm pull-up is recommended."

## LT1370CR
designator U?
500 kHz High Efficiency 6 A Switching Regulator, 7-pin DPAK (R-7), 0 to 125 degC; Manufacturer: Linear Technology; PartNumber: LT1370CR; Number of Outputs: 1; PackageReference: R-7; PackageDescription: 7-Pin Plastic DD Pak, Body 10.2235 x 8.89 mm, Pitch 1.27 mm; Supplier 1: Digi-Key; Supplier Part Number 1: LT1370CR-ND; RoHS: FALSE
footprint LT-R-7_N (DPAK, 7-Leads, Body 10.224x8.89mm, Pitch 1.27mm, IPC Medium Density)
footprint LT-R-7_L (DPAK, 7-Leads, Body 10.224x8.89mm, Pitch 1.27mm, IPC High Density)
footprint LT-R-7_M (DPAK, 7-Leads, Body 10.224x8.89mm, Pitch 1.27mm, IPC Low Density)
pins: 1 VC "The Compensation pin is used for frequency compensation, current limiting and soft start. It is the output of the error amplifier and the input of the current comparator. Loop frequency compensation can be performed with an (See Datasheet)", 2 FB (in) "The Feedback pin is used for positive output voltage sensing and oscillator frequency shifting. It is the inverting input to the error amplifier. The noninverting input of this amplifier is internally tied to a 1.245V (See Datasheet)", 3 S/S (in) "Shutdown and Synchronization Pin. The S/S pin is logic level compatible. Shutdown is active low and the shutdown threshold is typically 1.3V. For normal operation, pull the S/S pin high, tie it to VIN or leave it floating. (See Datasheet)", 4 GND (power) "Tie all ground pins to a good quality ground plane. See Applications Information.", 5 VSW (power) "The Switch pin is the collector of the power switch and has large currents flowing through it. Keep the traces to the switching components as short as possible to minimize radiation and voltage spikes.", 6 NFB (in) "The Negative Feedback pin is used for negative output voltage sensing. It is connected to the inverting input of the negative feedback amplifier through a 100k source resistor.", 7 VIN (power) "Bypass Input Supply Pin with a Low ESR Capacitor, 10uF or More. The regulator goes into undervoltage lockout when VIN drops below 2.5V. Undervoltage lockout stops switching and pulls the VC pin low.", 8 TAB (power)

## LT1370CR#PBF
designator U?
500 kHz High Efficiency 6 A Switching Regulator, 7-pin DPAK (R-7), 0 to 125 degC, Pb-Free; Manufacturer: Linear Technology; PartNumber: LT1370CR#PBF; Number of Outputs: 1; PackageReference: R-7; PackageDescription: 7-Pin Plastic DD Pak, Body 10.2235 x 8.89 mm, Pitch 1.27 mm; Supplier 1: Digi-Key; Supplier Part Number 1: LT1370CR#PBF-ND; RoHS: TRUE
footprint LT-R-7_N (DPAK, 7-Leads, Body 10.224x8.89mm, Pitch 1.27mm, IPC Medium Density)
footprint LT-R-7_L (DPAK, 7-Leads, Body 10.224x8.89mm, Pitch 1.27mm, IPC High Density)
footprint LT-R-7_M (DPAK, 7-Leads, Body 10.224x8.89mm, Pitch 1.27mm, IPC Low Density)
pins: 1 VC "The Compensation pin is used for frequency compensation, current limiting and soft start. It is the output of the error amplifier and the input of the current comparator. Loop frequency compensation can be performed with an (See Datasheet)", 2 FB (in) "The Feedback pin is used for positive output voltage sensing and oscillator frequency shifting. It is the inverting input to the error amplifier. The noninverting input of this amplifier is internally tied to a 1.245V (See Datasheet)", 3 S/S (in) "Shutdown and Synchronization Pin. The S/S pin is logic level compatible. Shutdown is active low and the shutdown threshold is typically 1.3V. For normal operation, pull the S/S pin high, tie it to VIN or leave it floating. (See Datasheet)", 4 GND (power) "Tie all ground pins to a good quality ground plane. See Applications Information.", 5 VSW (power) "The Switch pin is the collector of the power switch and has large currents flowing through it. Keep the traces to the switching components as short as possible to minimize radiation and voltage spikes.", 6 NFB (in) "The Negative Feedback pin is used for negative output voltage sensing. It is connected to the inverting input of the negative feedback amplifier through a 100k source resistor.", 7 VIN (power) "Bypass Input Supply Pin with a Low ESR Capacitor, 10uF or More. The regulator goes into undervoltage lockout when VIN drops below 2.5V. Undervoltage lockout stops switching and pulls the VC pin low.", 8 TAB (power)

## LT1370CR#TR
designator U?
500 kHz High Efficiency 6 A Switching Regulator, 7-pin DPAK (R-7), 0 to 125 degC, Tape and Reel; Manufacturer: Linear Technology; PartNumber: LT1370CR#TR; Number of Outputs: 1; PackageReference: R-7; PackageDescription: 7-Pin Plastic DD Pak, Body 10.2235 x 8.89 mm, Pitch 1.27 mm; Supplier 1: Digi-Key; Supplier Part Number 1: LT1370CR#TR-ND; RoHS: FALSE
footprint LT-R-7_N (DPAK, 7-Leads, Body 10.224x8.89mm, Pitch 1.27mm, IPC Medium Density)
footprint LT-R-7_L (DPAK, 7-Leads, Body 10.224x8.89mm, Pitch 1.27mm, IPC High Density)
footprint LT-R-7_M (DPAK, 7-Leads, Body 10.224x8.89mm, Pitch 1.27mm, IPC Low Density)
pins: 1 VC "The Compensation pin is used for frequency compensation, current limiting and soft start. It is the output of the error amplifier and the input of the current comparator. Loop frequency compensation can be performed with an (See Datasheet)", 2 FB (in) "The Feedback pin is used for positive output voltage sensing and oscillator frequency shifting. It is the inverting input to the error amplifier. The noninverting input of this amplifier is internally tied to a 1.245V (See Datasheet)", 3 S/S (in) "Shutdown and Synchronization Pin. The S/S pin is logic level compatible. Shutdown is active low and the shutdown threshold is typically 1.3V. For normal operation, pull the S/S pin high, tie it to VIN or leave it floating. (See Datasheet)", 4 GND (power) "Tie all ground pins to a good quality ground plane. See Applications Information.", 5 VSW (power) "The Switch pin is the collector of the power switch and has large currents flowing through it. Keep the traces to the switching components as short as possible to minimize radiation and voltage spikes.", 6 NFB (in) "The Negative Feedback pin is used for negative output voltage sensing. It is connected to the inverting input of the negative feedback amplifier through a 100k source resistor.", 7 VIN (power) "Bypass Input Supply Pin with a Low ESR Capacitor, 10uF or More. The regulator goes into undervoltage lockout when VIN drops below 2.5V. Undervoltage lockout stops switching and pulls the VC pin low.", 8 TAB (power)

## LT1370CR#TRPBF
designator U?
500 kHz High Efficiency 6 A Switching Regulator, 7-pin DPAK (R-7), 0 to 125 degC, Pb-Free, Tape and Reel; Manufacturer: Linear Technology; PartNumber: LT1370CR#TRPBF; Number of Outputs: 1; PackageReference: R-7; PackageDescription: 7-Pin Plastic DD Pak, Body 10.2235 x 8.89 mm, Pitch 1.27 mm; Supplier 1: Digi-Key; Supplier Part Number 1: LT1370CR#TRPBF-ND; RoHS: TRUE
footprint LT-R-7_N (DPAK, 7-Leads, Body 10.224x8.89mm, Pitch 1.27mm, IPC Medium Density)
footprint LT-R-7_L (DPAK, 7-Leads, Body 10.224x8.89mm, Pitch 1.27mm, IPC High Density)
footprint LT-R-7_M (DPAK, 7-Leads, Body 10.224x8.89mm, Pitch 1.27mm, IPC Low Density)
pins: 1 VC "The Compensation pin is used for frequency compensation, current limiting and soft start. It is the output of the error amplifier and the input of the current comparator. Loop frequency compensation can be performed with an (See Datasheet)", 2 FB (in) "The Feedback pin is used for positive output voltage sensing and oscillator frequency shifting. It is the inverting input to the error amplifier. The noninverting input of this amplifier is internally tied to a 1.245V (See Datasheet)", 3 S/S (in) "Shutdown and Synchronization Pin. The S/S pin is logic level compatible. Shutdown is active low and the shutdown threshold is typically 1.3V. For normal operation, pull the S/S pin high, tie it to VIN or leave it floating. (See Datasheet)", 4 GND (power) "Tie all ground pins to a good quality ground plane. See Applications Information.", 5 VSW (power) "The Switch pin is the collector of the power switch and has large currents flowing through it. Keep the traces to the switching components as short as possible to minimize radiation and voltage spikes.", 6 NFB (in) "The Negative Feedback pin is used for negative output voltage sensing. It is connected to the inverting input of the negative feedback amplifier through a 100k source resistor.", 7 VIN (power) "Bypass Input Supply Pin with a Low ESR Capacitor, 10uF or More. The regulator goes into undervoltage lockout when VIN drops below 2.5V. Undervoltage lockout stops switching and pulls the VC pin low.", 8 TAB (power)

## LT1370CT7
designator U?
500 kHz High Efficiency 6 A Switching Regulator, 7-pin FM (T7-7), 0 to 125 degC; Manufacturer: Linear Technology; PartNumber: LT1370CT7; Number of Outputs: 1; PackageReference: T7-7; PackageDescription: 7-Pin Plastic TO-220 (Straight Lead), Body 10.224 x 4.382 mm, Pitch 1.27 mm; Supplier 1: Digi-Key; Supplier Part Number 1: LT1370CT7-ND; RoHS: FALSE
footprint LT-T7-7-S_V (FM, 7-Leads, Body 10.55x4.6mm, Pitch 1.27mm)
pins: 1 VC "The Compensation pin is used for frequency compensation, current limiting and soft start. It is the output of the error amplifier and the input of the current comparator. Loop frequency compensation can be performed with an (See Datasheet)", 2 FB (in) "The Feedback pin is used for positive output voltage sensing and oscillator frequency shifting. It is the inverting input to the error amplifier. The noninverting input of this amplifier is internally tied to a 1.245V (See Datasheet)", 3 S/S (in) "Shutdown and Synchronization Pin. The S/S pin is logic level compatible. Shutdown is active low and the shutdown threshold is typically 1.3V. For normal operation, pull the S/S pin high, tie it to VIN or leave it floating. (See Datasheet)", 4 GND (power) "Tie all ground pins to a good quality ground plane. See Applications Information.", 5 VSW (power) "The Switch pin is the collector of the power switch and has large currents flowing through it. Keep the traces to the switching components as short as possible to minimize radiation and voltage spikes.", 6 NFB (in) "The Negative Feedback pin is used for negative output voltage sensing. It is connected to the inverting input of the negative feedback amplifier through a 100k source resistor.", 7 VIN (power) "Bypass Input Supply Pin with a Low ESR Capacitor, 10uF or More. The regulator goes into undervoltage lockout when VIN drops below 2.5V. Undervoltage lockout stops switching and pulls the VC pin low."

## LT1370CT7#PBF
designator U?
500 kHz High Efficiency 6 A Switching Regulator, 7-pin FM (T7-7), 0 to 125 degC, Pb-Free; Manufacturer: Linear Technology; PartNumber: LT1370CT7#PBF; Number of Outputs: 1; PackageReference: T7-7; PackageDescription: 7-Pin Plastic TO-220 (Straight Lead), Body 10.224 x 4.382 mm, Pitch 1.27 mm; Supplier 1: Digi-Key; Supplier Part Number 1: LT1370CT7#PBF-ND; RoHS: TRUE
footprint LT-T7-7-S_V (FM, 7-Leads, Body 10.55x4.6mm, Pitch 1.27mm)
pins: 1 VC "The Compensation pin is used for frequency compensation, current limiting and soft start. It is the output of the error amplifier and the input of the current comparator. Loop frequency compensation can be performed with an (See Datasheet)", 2 FB (in) "The Feedback pin is used for positive output voltage sensing and oscillator frequency shifting. It is the inverting input to the error amplifier. The noninverting input of this amplifier is internally tied to a 1.245V (See Datasheet)", 3 S/S (in) "Shutdown and Synchronization Pin. The S/S pin is logic level compatible. Shutdown is active low and the shutdown threshold is typically 1.3V. For normal operation, pull the S/S pin high, tie it to VIN or leave it floating. (See Datasheet)", 4 GND (power) "Tie all ground pins to a good quality ground plane. See Applications Information.", 5 VSW (power) "The Switch pin is the collector of the power switch and has large currents flowing through it. Keep the traces to the switching components as short as possible to minimize radiation and voltage spikes.", 6 NFB (in) "The Negative Feedback pin is used for negative output voltage sensing. It is connected to the inverting input of the negative feedback amplifier through a 100k source resistor.", 7 VIN (power) "Bypass Input Supply Pin with a Low ESR Capacitor, 10uF or More. The regulator goes into undervoltage lockout when VIN drops below 2.5V. Undervoltage lockout stops switching and pulls the VC pin low."